# Altium footprint library DI_LED_OSRAM.PcbLib: 1 footprints
Each footprint in its own frame and in the unit in brackets; x right, y up, seen from the top. Pads: shape width x height; smd on the part's side, far side on the other; paste and mask are expansions set on the pad; w line width, h text height; cw(c..) or ccw(c..) is an arc to the next point about the centre after c.
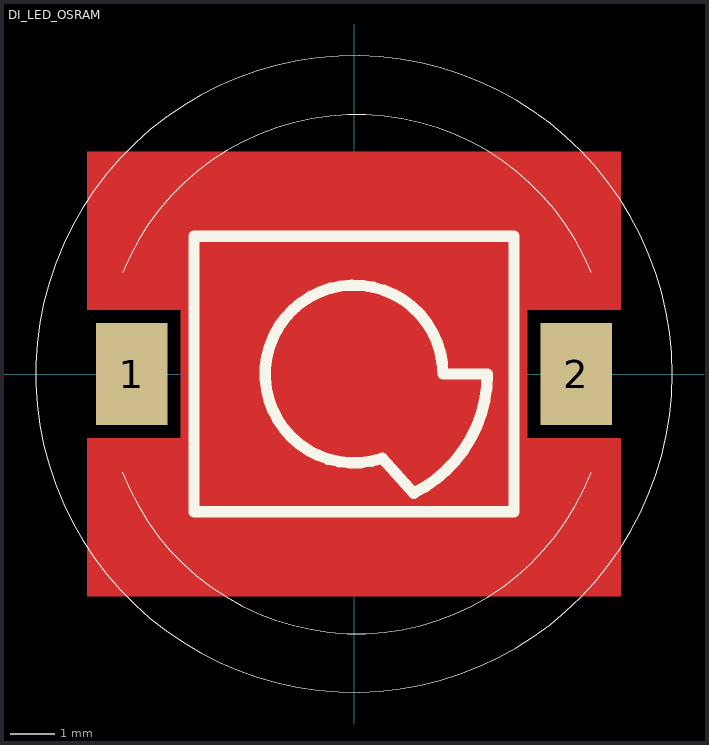
[diagram p0: the footprint, top view; thin cyan lines are the x and y axes]

## DI_LED_OSRAM [mm]
pads (2):
  rect 1.6x2.3 smd paste+0 mask+0: 1(-5,0) 2(5,0)
Top Layer:
  region: -6,5 6,5 6,1.45 3.9,1.45 3.9,-1.45 6,-1.45 6,-5 -6,-5 -6,-1.45 -3.9,-1.45 -3.9,1.45 -6,1.45
  lines w0.254: -2,0 cw(c0,0) 2,0
Top Overlay:
  circle w0.01: c0,0 r7.158
  lines w0.01: -5.208,-2.212 ccw(c0.064,-0.199) 5.333,-2.221 ; -5.206,2.288 cw(c0.064,0.148) 5.333,2.288
  lines w0.254: -3.6,-3.1 -3.6,3.1 3.6,3.1 3.6,-3.1 -3.6,-3.1 ; 0.632,-1.897 cw(c0,0) 2,0 3,0 cw(c0,0) 1.342,-2.683 0.632,-1.897
Top Paste:
  circle w1.25: c0,0 r0.625
Top Solder:
  circle w2: c0,0 r1
3D body: height 2.75, standoff 0, extent -5.476,-2.978 5.525,3.022